# Altium footprint library MWSA系列电感.PcbLib: 8 footprints
Each footprint in its own frame and in the unit in brackets; x right, y up, seen from the top. Pads: shape width x height; smd on the part's side, far side on the other; paste and mask are expansions set on the pad; w line width, h text height; cw(c..) or ccw(c..) is an arc to the next point about the centre after c.
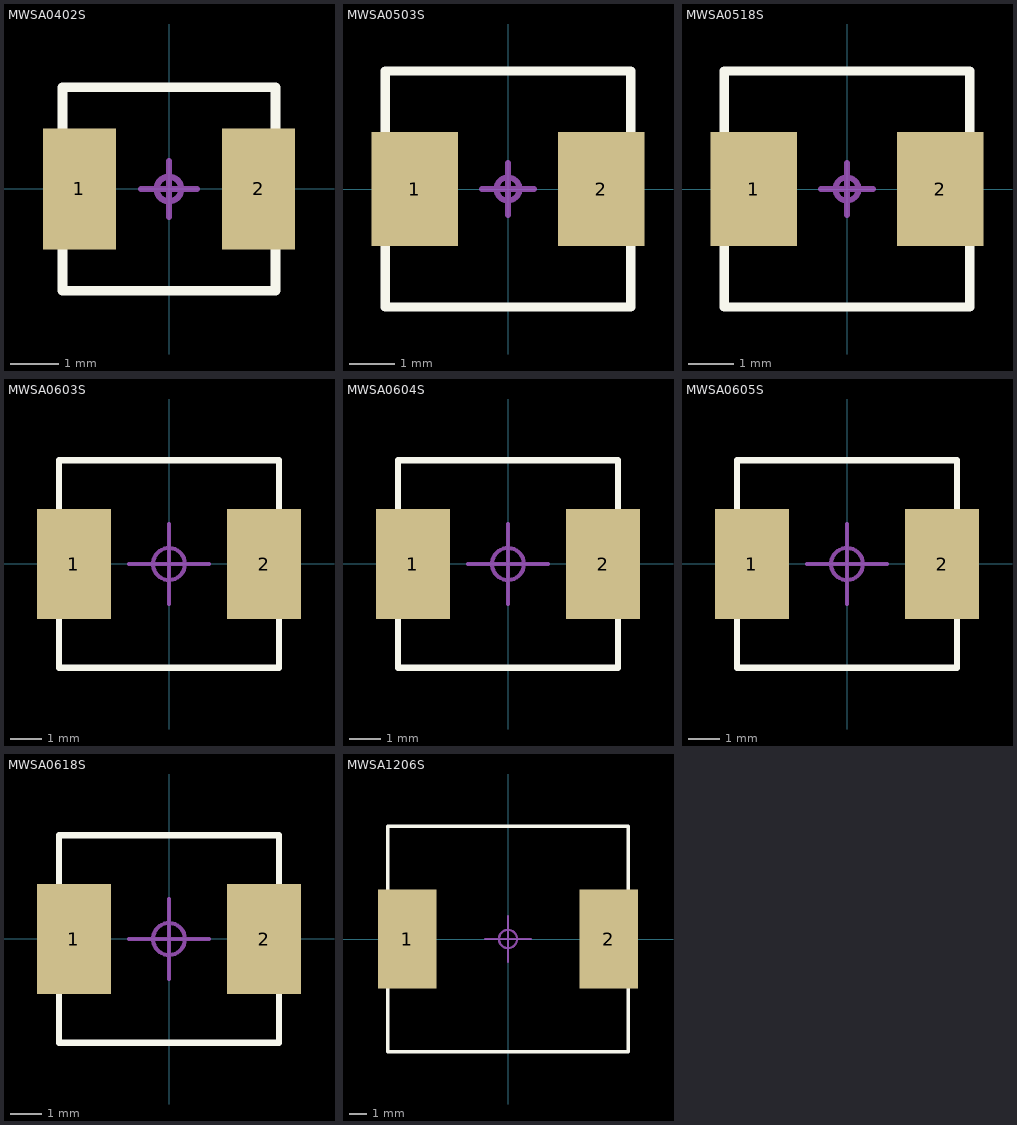
[diagram p0: the footprints below, top view; thin cyan lines are the x and y axes]

## MWSA0402S [mm]
height 1.8
pads (2):
  rect 1.5x2.5 smd: 1(-1.85,0) 2(1.85,0)
Top Overlay:
  lines w0.2: -2.2,-2.1 -2.2,2.1 2.2,2.1 2.2,-2.1 -2.2,-2.1
Mechanical 15:
  circle w0.127: c0,0 r0.254
  lines w0.127: -0.575,0 0.575,0 ; 0,-0.575 0,0.575
3D body "User Library-MWSA0402S.STEP": height 1.8, standoff 0, extent -2.4,-2.1 2.4,2.1

## MWSA0503S [mm]
height 2.8
pads (2):
  rect 1.9x2.5 smd: 1(-2.05,0) 2(2.05,0)
Top Overlay:
  lines w0.2: -2.7,-2.6 2.7,-2.6 2.7,2.6 -2.7,2.6 -2.7,-2.6
Mechanical 15:
  circle w0.127: c0,0 r0.254
  lines w0.127: -0.575,0 0.575,0 ; 0,-0.575 0,0.575
3D body "User Library-MWSA0503S.STEP": height 2.8, standoff 0, extent -2.9,-2.6 2.9,2.6

## MWSA0518S [mm]
height 1.6
pads (2):
  rect 1.9x2.5 smd: 1(-2.05,0) 2(2.05,0)
Top Overlay:
  lines w0.2: -2.7,-2.6 2.7,-2.6 2.7,2.6 -2.7,2.6 -2.7,-2.6
Mechanical 15:
  circle w0.127: c0,0 r0.254
  lines w0.127: -0.575,0 0.575,0 ; 0,-0.575 0,0.575
3D body "User Library-MWSA0518S.STEP": height 1.8, standoff 0, extent -2.9,-2.6 2.9,2.6

## MWSA0603S [mm]
height 2.8
pads (2):
  rect 2.35x3.5 smd: 1(-3.025,0) 2(3.025,0)
Top Overlay:
  lines w0.2: -3.5,-3.3 -3.5,3.3 3.5,3.3 3.5,-3.3 -3.5,-3.3
Mechanical 15:
  circle w0.127: c0,0 r0.508
  lines w0.127: -1.27,0 1.27,0 ; 0,-1.27 0,1.27
3D body "User Library-MWSA0603S.STEP": height 2.8, standoff 0, extent -3.6,-3.3 3.6,3.3

## MWSA0604S [mm]
height 3.8
pads (2):
  rect 2.35x3.5 smd: 1(-3.025,0) 2(3.025,0)
Top Overlay:
  lines w0.2: -3.5,-3.3 -3.5,3.3 3.5,3.3 3.5,-3.3 -3.5,-3.3
Mechanical 15:
  circle w0.127: c0,0 r0.508
  lines w0.127: -1.27,0 1.27,0 ; 0,-1.27 0,1.27
3D body "User Library-MWSA0604S.STEP": height 3.8, standoff 0, extent -3.6,-3.3 3.6,3.3

## MWSA0605S [mm]
height 4.8
pads (2):
  rect 2.35x3.5 smd: 1(-3.025,0) 2(3.025,0)
Top Overlay:
  lines w0.2: -3.5,-3.3 3.5,-3.3 3.5,3.3 -3.5,3.3 -3.5,-3.3
Mechanical 15:
  circle w0.127: c0,0 r0.508
  lines w0.127: -1.27,0 1.27,0 ; 0,-1.27 0,1.27
3D body "User Library-MWSA0605S.STEP": height 5.8, standoff 0, extent -3.6,-3.3 3.6,3.3

## MWSA0618S [mm]
height 1.6
pads (2):
  rect 2.35x3.5 smd: 1(-3.025,0) 2(3.025,0)
Top Overlay:
  lines w0.2: -3.5,-3.3 3.5,-3.3 3.5,3.3 -3.5,3.3 -3.5,-3.3
Mechanical 15:
  circle w0.127: c0,0 r0.508
  lines w0.127: -1.27,0 1.27,0 ; 0,-1.27 0,1.27
3D body "User Library-MWSA0618S.STEP": height 1.8, standoff 0, extent -3.6,-3.3 3.6,3.3

## MWSA1206S [mm]
height 5.8
pads (2):
  rect 3.25x5.5 smd: 1(-5.625,0) 2(5.625,0)
Top Overlay:
  lines w0.2: -6.725,-6.3 -6.725,6.3 6.725,6.3 6.725,-6.3 -6.725,-6.3
Mechanical 15:
  circle w0.127: c0,0 r0.508
  lines w0.127: -1.27,0 1.27,0 ; 0,-1.27 0,1.27
3D body "User Library-MWSA1206S.STEP": height 5.8, standoff -0.1, extent -6.5,-6.1 6.5,6.1